# Altium schematic symbol library Connectors.SchLib: 36 symbols
Pins are listed as number, name and electrical type; pins without a type are passive.

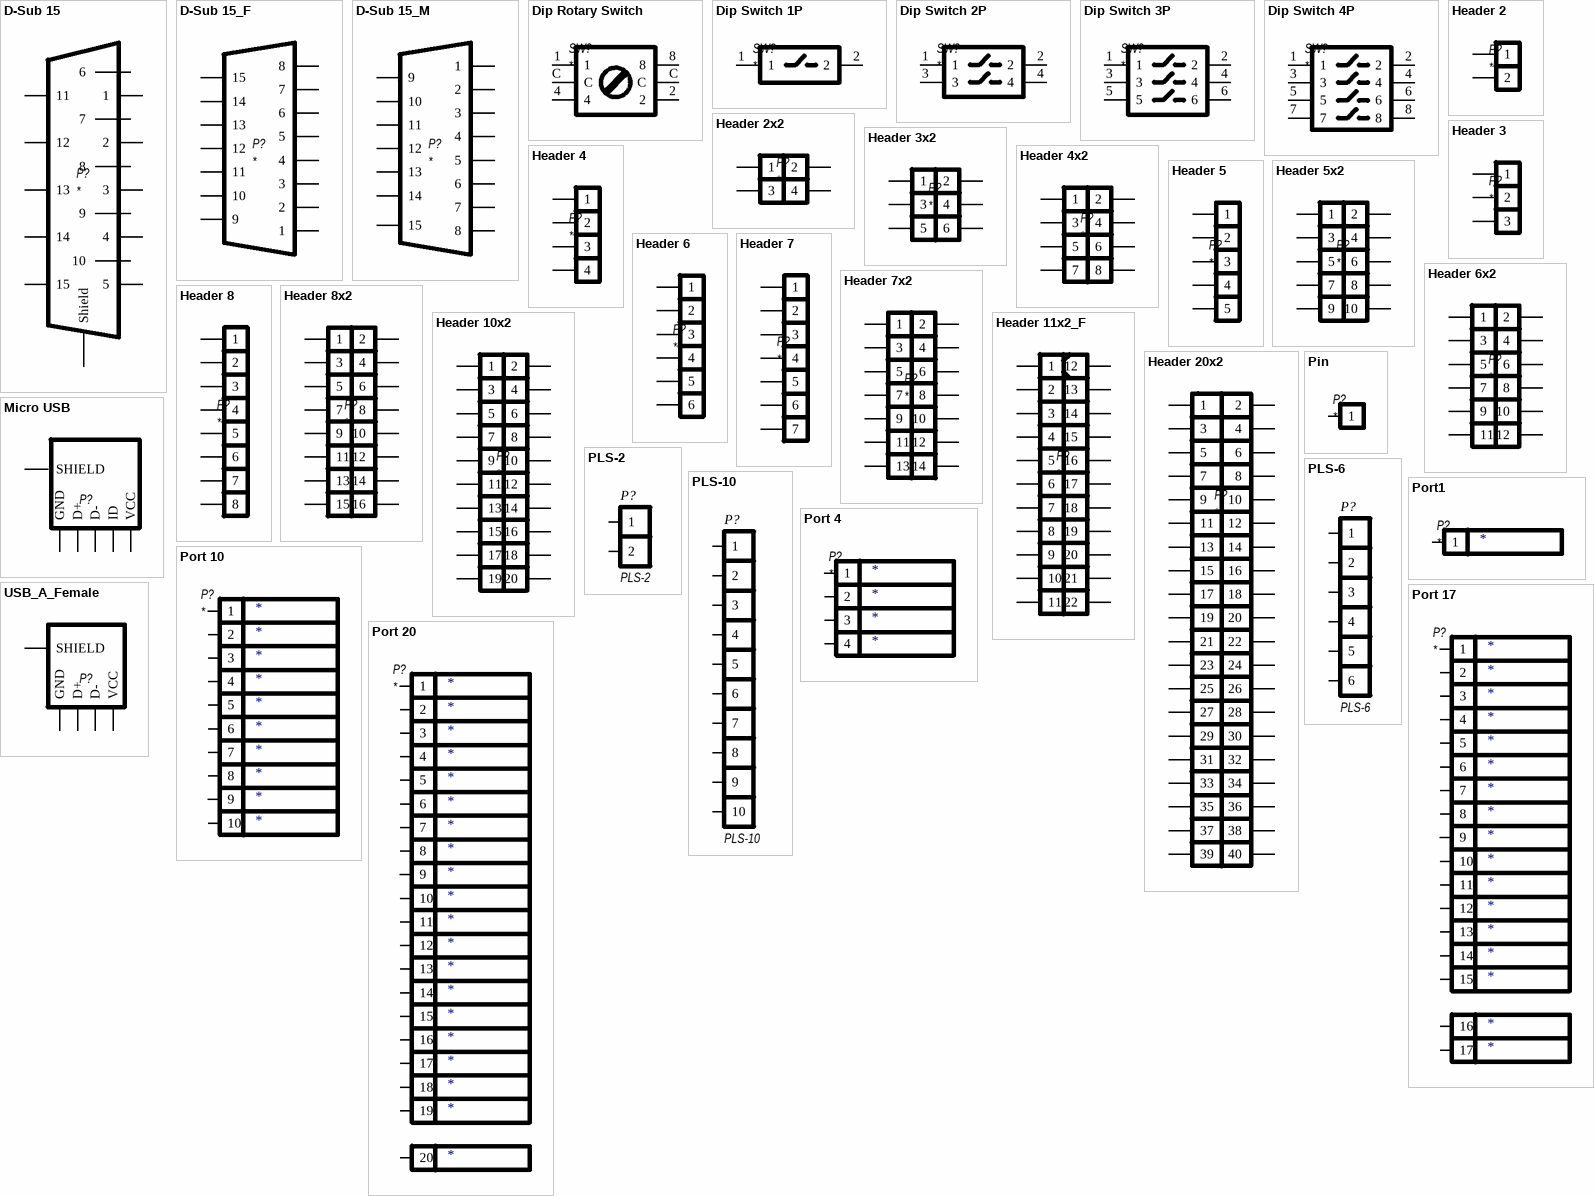
[diagram p0: symbols D-Sub 15 to USB_A_Female]

## D-Sub 15
designator P?
footprint D-SUB 15F - LONG
footprint D-SUB 15F - SHORT
pins: 0 Shield, 1, 2, 3, 4, 5, 6, 7, 8, 9, 10, 11, 12, 13, 14, 15

## D-Sub 15_F
designator P?
footprint D-SUB 15F - LONG
footprint DB15F-Straight_pins
footprint D-SUB 15F - SHORT
pins: 1, 2, 3, 4, 5, 6, 7, 8, 9, 10, 11, 12, 13, 14, 15

## D-Sub 15_M
designator P?
footprint D-SUB 15F - LONG
footprint D-SUB 15F - SHORT
pins: 1, 2, 3, 4, 5, 6, 7, 8, 9, 10, 11, 12, 13, 14, 15

## Dip Rotary Switch
designator SW?
footprint DIP Rotary Switch
pins: 1, 2, 4, 8, C, C

## Dip Switch 1P
designator SW?
footprint DIP Switch 1p
pins: 1, 2

## Dip Switch 2P
designator SW?
footprint DIP Switch 2P
pins: 1, 2, 3, 4

## Dip Switch 3P
designator SW?
footprint DIP Switch 3P
pins: 1, 2, 3, 4, 5, 6

## Dip Switch 4P
designator SW?
footprint DIP Switch 4P
pins: 1, 2, 3, 4, 5, 6, 7, 8

## Header 2
designator P?
footprint Header 2
footprint DG126 (DG126 Port)
footprint JST HX 2 (Pitch 2.5mm)
footprint XT60PW-M20
footprint JST PH 2 (Pitch 2.0mm)
footprint XT60-F
footprint XT60-M
footprint XT30-F
footprint XT30-M
footprint XT30PW-F
footprint XT30PW-M
pins: 1, 2

## Header 2x2
designator P?
footprint Header 2X2
pins: 1, 2, 3, 4

## Header 3
designator P?
footprint Header 3
footprint JST HX 3 (Pitch 2.5mm)
footprint JST PH 3 (Pitch 2.0mm)
pins: 1, 2, 3

## Header 3x2
designator P?
footprint Header 3x2
pins: 1, 2, 3, 4, 5, 6

## Header 4
designator P?
footprint Header 4
footprint JST HX 4 (Pitch 2.5mm)
footprint JST PH 4 (Pitch 2.0mm)
pins: 1, 2, 3, 4

## Header 4x2
designator P?
footprint Header 4x2
footprint JST PHD 4x2 (Pitch 2.0mm)
pins: 1, 2, 3, 4, 5, 6, 7, 8

## Header 5
designator P?
footprint Header 5
footprint JST HX 5 (Pitch 2.5mm)
footprint JST PH 5 (Pitch 2.0mm)
pins: 1, 2, 3, 4, 5

## Header 5x2
designator P?
footprint Header 5x2
footprint JST PHD 5x2 (Pitch 2.0mm)
pins: 1, 2, 3, 4, 5, 6, 7, 8, 9, 10

## Header 6
designator P?
footprint Header 6
footprint JST HX 6 (Pitch 2.5mm)
footprint JST PH 6 (Pitch 2.0mm)
footprint Header 6 - 1.27
pins: 1, 2, 3, 4, 5, 6

## Header 6x2
designator P?
footprint Header 6x2
footprint JST PHD 6x2 (Pitch 2.0mm)
pins: 1, 2, 3, 4, 5, 6, 7, 8, 9, 10, 11, 12

## Header 7
designator P?
footprint Header 7
pins: 1, 2, 3, 4, 5, 6, 7

## Header 7x2
designator P?
footprint Header 7x2
pins: 1, 2, 3, 4, 5, 6, 7, 8, 9, 10, 11, 12, 13, 14

## Header 8
designator P?
footprint Header 8
pins: 1, 2, 3, 4, 5, 6, 7, 8

## Header 8x2
designator P?
footprint Header 8x2
pins: 1, 2, 3, 4, 5, 6, 7, 8, 9, 10, 11, 12, 13, 14, 15, 16

## Header 10x2
designator P?
footprint Header 10x2
footprint BH 10x2H
footprint BH 10x2V
pins: 1, 2, 3, 4, 5, 6, 7, 8, 9, 10, 11, 12, 13, 14, 15, 16, 17, 18, 19, 20

## Header 11x2_F
designator P?
footprint Header 10x2
footprint BH 10x2H
footprint BH 10x2V
pins: 1, 2, 3, 4, 5, 6, 7, 8, 9, 10, 11, 12, 13, 14, 15, 16, 17, 18, 19, 20, 21, 22

## Header 20x2
designator P?
footprint Header 20x2
pins: 1, 2, 3, 4, 5, 6, 7, 8, 9, 10, 11, 12, 13, 14, 15, 16, 17, 18, 19, 20, 21, 22, 23, 24, 25, 26, 27, 28, 29, 30, 31, 32, 33, 34, 35, 36, 37, 38, 39, 40

## Micro USB
designator P?  (value not drawn)
footprint MicroUSB Vert (Micro USB Jack - Typ B, THT, vertical)
pins: 0 SHIELD, 1 VCC, 2 D-, 3 D+, 4 ID, 5 GND

## Pin
designator P?
footprint PIN
pins: 1

## PLS-2
designator P?
footprint PLS-2
pins: 1, 2

## PLS-6
designator P?
footprint PLS-6
pins: 1, 2, 3, 4, 5, 6

## PLS-10
designator P?
footprint PLS-10
pins: 1, 2, 3, 4, 5, 6, 7, 8, 9, 10

## Port1
designator P?
P1: *
footprint PIN
pins: 1 "Port"

## Port 4
designator P?
P1: *; P2: *; P3: *; P4: *
pins: 1 "Port", 2 "Port", 3 "Port", 4 "Port"

## Port 10
designator P?
P1: *; P2: *; P3: *; P4: *; P5: *; P6: *; P7: *; P8: *; P9: *; P10: *
pins: 1 "Port", 2 "Port", 3 "Port", 4 "Port", 5 "Port", 6 "Port", 7 "Port", 8 "Port", 9 "Port", 10 "Port"

## Port 17
designator P?
P1: *; P2: *; P3: *; P4: *; P5: *; P6: *; P7: *; P8: *; P9: *; P10: *; P11: *; P12: *; P13: *; P14: *; P15: *; P16: *; P17: *
footprint FDC CSI 15pin
pins: 1 "Port", 2 "Port", 3 "Port", 4 "Port", 5 "Port", 6 "Port", 7 "Port", 8 "Port", 9 "Port", 10 "Port", 11 "Port", 12 "Port", 13 "Port", 14 "Port", 15 "Port", 16 "Port", 17 "Port"

## Port 20
designator P?
P1: *; P2: *; P3: *; P4: *; P5: *; P6: *; P7: *; P8: *; P9: *; P10: *; P11: *; P12: *; P13: *; P14: *; P15: *; P16: *; P17: *; P18: *; P19: *; P20: *
footprint HDMI TYPE A; pin to pad 20>S1
pins: 1 "Port", 2 "Port", 3 "Port", 4 "Port", 5 "Port", 6 "Port", 7 "Port", 8 "Port", 9 "Port", 10 "Port", 11 "Port", 12 "Port", 13 "Port", 14 "Port", 15 "Port", 16 "Port", 17 "Port", 18 "Port", 19 "Port", 20 "Port"

## USB_A_Female
designator P?  (value not drawn)
footprint USB A Fem Hor (USB Type A Female Horizontal TH)
footprint USB A Fem Vert (USB Type A Female Vertical TH)
pins: 0 SHIELD, 1 VCC, 2 D-, 3 D+, 4 GND